# Altium footprint library PcbLib1.PcbLib: 27 footprints (part 2 of 2)
Each footprint in its own frame and in the unit in brackets; x right, y up, seen from the top. Pads: shape width x height; smd on the part's side, far side on the other; paste and mask are expansions set on the pad; w line width, h text height; cw(c..) or ccw(c..) is an arc to the next point about the centre after c.
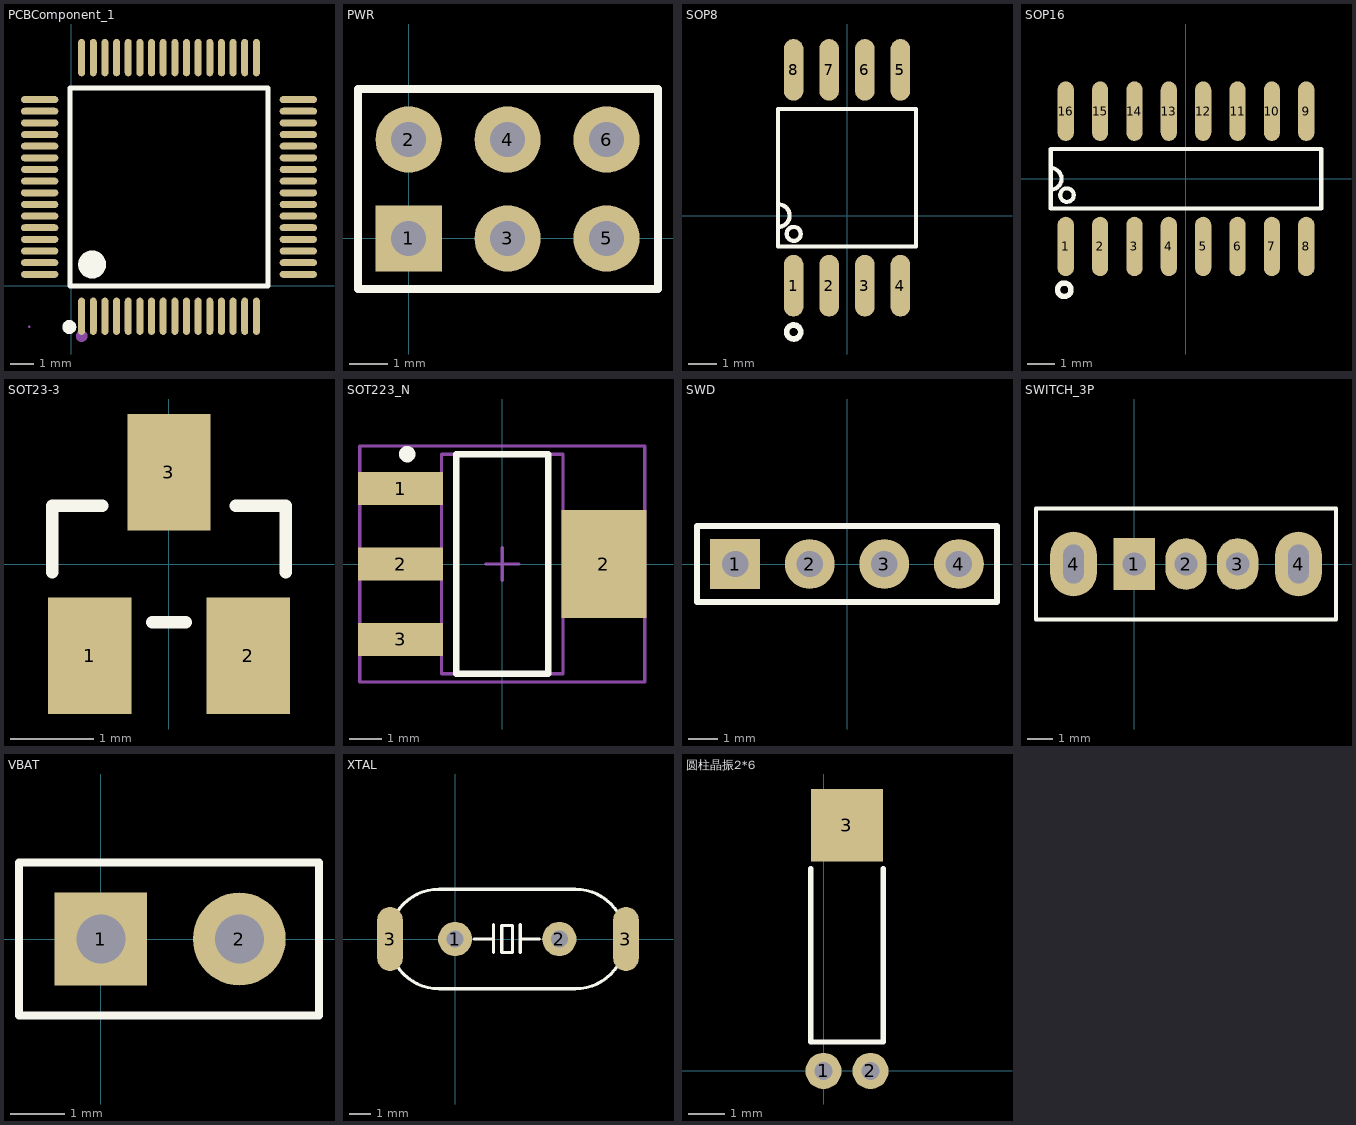
[diagram p1: the footprints below, top view; thin cyan lines are the x and y axes]

## PCBComponent_1 [mm]
pads (64):
  oval 0.3x1.6 smd: 1(0.441,-1.311) 2(0.941,-1.311) 3(1.441,-1.311) 4(1.941,-1.311) 5(2.441,-1.311) 6(2.941,-1.311) 7(3.441,-1.311) 8(3.941,-1.311) 9(4.441,-1.311) 10(4.941,-1.311) 11(5.441,-1.311) 12(5.941,-1.311) 13(6.441,-1.311) 14(6.941,-1.311) 15(7.441,-1.311) 16(7.941,-1.311) 33(7.941,9.789) 34(7.441,9.789) 35(6.941,9.789) 36(6.441,9.789) 37(5.941,9.789) 38(5.441,9.789) 39(4.941,9.789) 40(4.441,9.789) 41(3.941,9.789) 42(3.441,9.789) 43(2.941,9.789) 44(2.441,9.789) 45(1.941,9.789) 46(1.441,9.789) 47(0.941,9.789) 48(0.441,9.789)
  oval 1.6x0.3 smd: 17(9.741,0.489) 18(9.741,0.989) 19(9.741,1.489) 20(9.741,1.989) 21(9.741,2.489) 22(9.741,2.989) 23(9.741,3.489) 24(9.741,3.989) 25(9.741,4.489) 26(9.741,4.989) 27(9.741,5.489) 28(9.741,5.989) 29(9.741,6.489) 30(9.741,6.989) 31(9.741,7.489) 32(9.741,7.989) 49(-1.359,7.989) 50(-1.359,7.489) 51(-1.359,6.989) 52(-1.359,6.489) 53(-1.359,5.989) 54(-1.359,5.489) 55(-1.359,4.989) 56(-1.359,4.489) 57(-1.359,3.989) 58(-1.359,3.489) 59(-1.359,2.989) 60(-1.359,2.489) 61(-1.359,1.989) 62(-1.359,1.489) 63(-1.359,0.989) 64(-1.359,0.489)
Top Overlay:
  lines w0.2: -0.059,-0.011 -0.059,8.489 8.441,8.489 8.441,-0.011 -0.059,-0.011
  lines w0.3: -0.089,-1.621 ccw(c-0.088,-1.771) -0.087,-1.621
  lines w0.6: 0.891,1.214 ccw(c0.894,0.914) 0.897,1.214
Mechanical 5:
  drawing of 128 lines, arcs and shapes, not listed
Mechanical 6:
  circle w0.06: c-1.809,-1.761 r0.03
Mechanical 15:
  circle w0.25: c0.441,-2.161 r0.125

## PWR [mm]
pads (6):
  rect 1.7x1.7 hole 0.9: 1(0,0)
  round 1.7 hole 0.9: 2(0,2.54) 3(2.54,0) 4(2.54,2.54) 5(5.08,0) 6(5.08,2.54)
Top Overlay:
  lines w0.2: -1.3,-1.3 6.4,-1.3 6.4,3.84 -1.3,3.84 -1.3,-1.3

## SOP8 [mm]
pads (8):
  oval 0.7x2.2 smd: 1(-1.905,-2.5) 2(-0.635,-2.5) 3(0.635,-2.5) 4(1.905,-2.5) 5(1.905,5.2) 6(0.635,5.2) 7(-0.635,5.2) 8(-1.905,5.2)
Top Overlay:
  circle w0.15: c-1.9,-0.65 r0.25
  circle w0.2: c-1.9,-4.15 r0.25
  lines w0.15: -2.447,-0.4 ccw(c-2.447,0) -2.447,0.4 ; -2.46,-1.1 -2.46,3.8 2.46,3.8 2.46,-1.1 -2.46,-1.1

## SOP16 [mm]
pads (16):
  oval 0.6x2.2 smd: 1(-4.445,-2.5) 2(-3.175,-2.5) 3(-1.905,-2.5) 4(-0.635,-2.5) 5(0.635,-2.5) 6(1.905,-2.5) 7(3.175,-2.5) 8(4.445,-2.5) 9(4.445,2.5) 10(3.175,2.5) 11(1.905,2.5) 12(0.635,2.5) 13(-0.635,2.5) 14(-1.905,2.5) 15(-3.175,2.5) 16(-4.445,2.5)
Top Overlay:
  circle w0.2: c-4.5,-4.1 r0.25
  circle w0.15: c-4.4,-0.6 r0.25
  lines w0.15: -5,-0.4 ccw(c-5,0) -5,0.4 ; -5,-1.1 5,-1.1 5,1.1 -5,1.1 -5,-1.1

## SOT23-3 [mm]
pads (3):
  rect 1x1.4 smd: 1(-0.95,-1.1) 2(0.95,-1.1) 3(0,1.1)
Top Overlay:
  lines w0.15: -1.4,-0.1 -1.4,0.7 -0.8,0.7 ; -0.2,-0.7 0.2,-0.7 ; 0.8,0.7 1.4,0.7 1.4,-0.1

## SOT223_N [mm]
pads (4):
  rect 2.6x1 smd: 1(-3.1,2.3) 2(-3.1,0) 3(-3.1,-2.3)
  rect 2.6x3.3 smd: 2(3.1,0)
Top Overlay:
  circle w0.25: c-2.9,3.35 r0.125
  lines w0.2: -1.4,-3.35 -1.4,3.35 1.4,3.35 1.4,-3.35 -1.4,-3.35
Mechanical 13:
  lines w0.1: -1.85,-3.35 -1.85,3.35 1.85,3.35 1.85,-3.35 -1.85,-3.35
Mechanical 15:
  lines w0.1: -0.5,0 0.5,0 ; 0,-0.5 0,0.5 ; -4.35,-3.6 -4.35,3.6 4.35,3.6 4.35,-3.6 -4.35,-3.6

## SWD [mm]
pads (4):
  rect 1.7x1.7 hole 0.9: 1(-3.81,0)
  round 1.7 hole 0.9: 2(-1.27,0) 3(1.27,0) 4(3.81,0)
Top Overlay:
  lines w0.2: -5.11,-1.3 -5.11,1.3 5.11,1.3 5.11,-1.3 -5.11,-1.3

## SWITCH_3P [mm]
pads (5):
  rect 1.6x2 hole 0.9: 1(0,0)
  oval 1.6x2 hole 0.9: 2(2,0) 3(4,0)
  oval 1.8x2.5 hole 1.5 slot 0.8 at 0 deg: 4(-2.35,0) 4(6.35,0)
Top Overlay:
  lines w0.15: -3.8,-2.15 7.8,-2.15 7.8,2.15 -3.8,2.15 -3.8,-2.15

## VBAT [mm]
pads (2):
  rect 1.7x1.7 hole 0.9: 1(0,0)
  round 1.7 hole 0.9: 2(2.54,0)
Top Overlay:
  lines w0.15: -1.5,-1.4 4,-1.4 4,1.4 -0.9,1.4 -1.5,1.4 -1.5,-1.4

## XTAL [mm]
pads (4):
  round 1.6 hole 0.8: 1(0,0) 2(4.88,0)
  oval 1.2x3 smd: 3(-3.048,0) 3(8.001,0)
Top Overlay:
  lines w0.15: 0.889,0 1.8,0 ; 1.8,-0.635 1.8,0.665 ; 3.048,0 3.937,0 ; 3.053,-0.635 3.053,0.665 ; -0.76,-2.33 cw(c-0.76,0) -0.76,2.33 5.64,2.33 cw(c5.64,0) 5.64,-2.33 -0.76,-2.33 ; 2.186,-0.635 2.694,-0.635 2.694,0.635 2.186,0.635 2.186,-0.635

## 圆柱晶振2*6 [mm]
pads (3):
  round 1 hole 0.5: 1(0,0) 2(1.3,0)
  rect 2x2 smd: 3(0.65,6.8)
Top Overlay:
  lines w0.15: -0.35,5.6 -0.35,0.8 1.65,0.8 1.65,5.6